# EAGLE library part NUCLEO-F446RE (library NUCLEO-F446RE)
STM32 Nucleo-64 development board with STM32F446RET6 MCU, supports Arduino and ST morpho connectivity
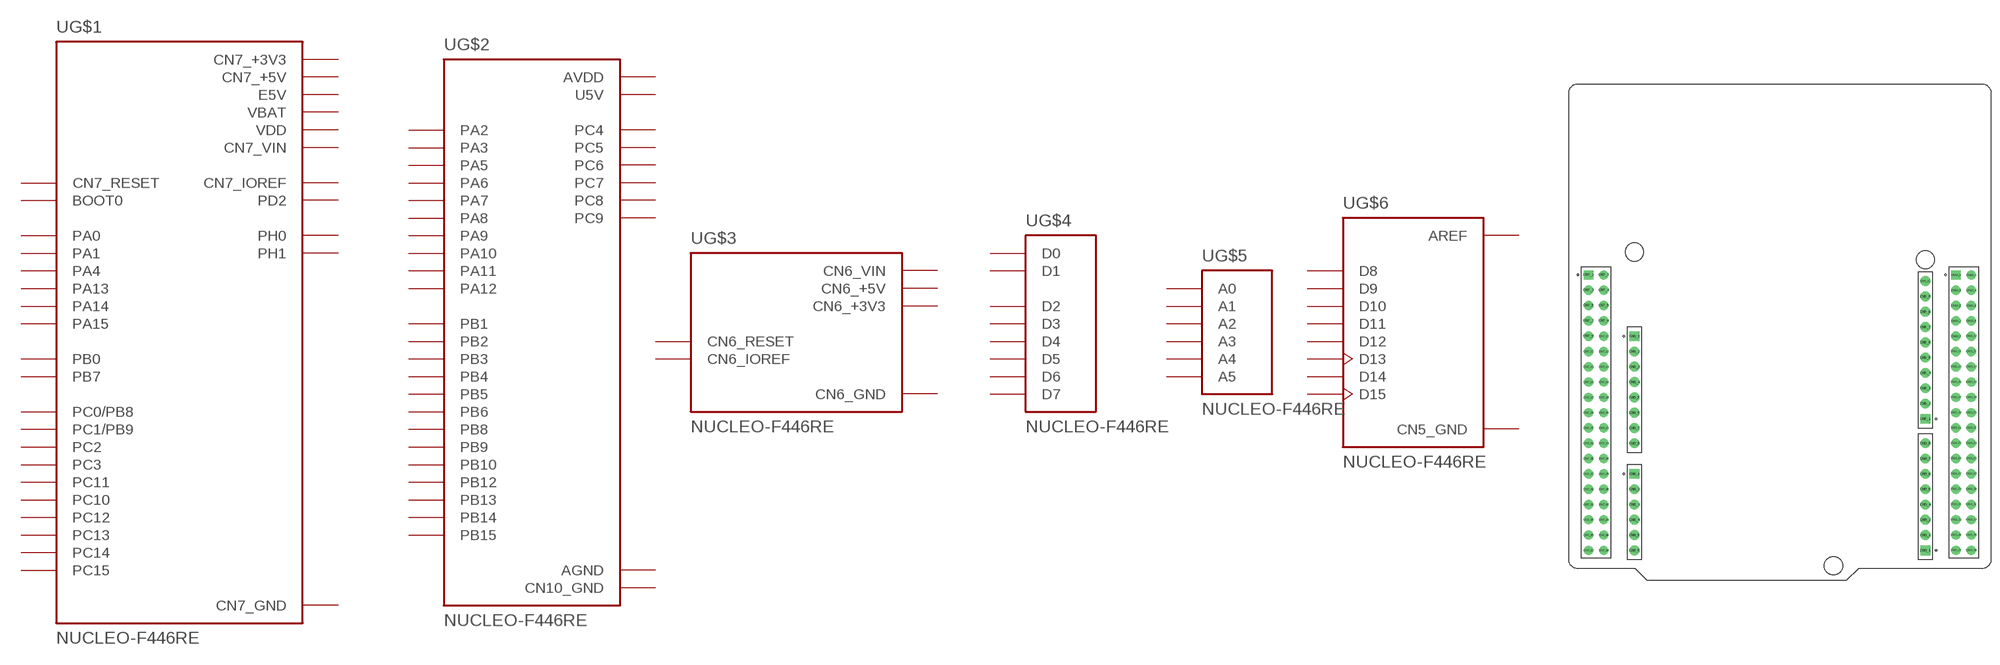
[diagram p0: symbol with the pads of MODULE_NUCLEO-F446RE; footprint MODULE_NUCLEO-F446RE]

Designator prefix U; gates G$1=NUCLEO-F446RE_IO-1 G$2=NUCLEO-F446RE_IO-2 G$3=NUCLEO-F446RE_POWER G$4=NUCLEO-F446RE_DIGITAL-2 G$5=NUCLEO-F446RE_ANALOG G$6=NUCLEO-F446RE_DIGITAL-1

## NUCLEO-F446RE (Availability: Unavailable; Description: STM32F446RE, mbed-Enabled Development Nucleo-64 STM32F4 ARM® Cortex®-M4 MCU 32-Bit Embedded Evaluation Board; MF: STMicroelectronics; MP: NUCLEO-F446RE; Package: None; Price: None)  [MODULE_NUCLEO-F446RE]
CN5_1  G$6:D8
CN5_2  G$6:D9
CN5_3  G$6:D10
CN5_4  G$6:D11
CN5_5  G$6:D12
CN5_6  G$6:D13
CN5_7  G$6:CN5_GND  pwr
CN5_8  G$6:AREF  pwr
CN5_9  G$6:D14
CN5_10  G$6:D15
CN6_2  G$3:CN6_IOREF
CN6_3  G$3:CN6_RESET
CN6_4  G$3:CN6_+3V3  pwr
CN6_5  G$3:CN6_+5V  pwr
CN6_6  G$3:CN6_GND  pwr
CN6_7  G$3:CN6_GND  pwr
CN6_8  G$3:CN6_VIN  pwr
CN7_1  G$1:PC10
CN7_2  G$1:PC11
CN7_3  G$1:PC12
CN7_4  G$1:PD2
CN7_5  G$1:VDD  pwr
CN7_6  G$1:E5V  pwr
CN7_7  G$1:BOOT0
CN7_8  G$1:CN7_GND  pwr
CN7_12  G$1:CN7_IOREF
CN7_13  G$1:PA13
CN7_14  G$1:CN7_RESET
CN7_15  G$1:PA14
CN7_16  G$1:CN7_+3V3  pwr
CN7_17  G$1:PA15
CN7_18  G$1:CN7_+5V  pwr
CN7_19  G$1:CN7_GND  pwr
CN7_20  G$1:CN7_GND  pwr
CN7_21  G$1:PB7
CN7_22  G$1:CN7_GND  pwr
CN7_23  G$1:PC13
CN7_24  G$1:CN7_VIN  pwr
CN7_25  G$1:PC14
CN7_27  G$1:PC15
CN7_28  G$1:PA0
CN7_29  G$1:PH0
CN7_30  G$1:PA1
CN7_31  G$1:PH1
CN7_32  G$1:PA4
CN7_33  G$1:VBAT  pwr
CN7_34  G$1:PB0
CN7_35  G$1:PC2
CN7_36  G$1:PC1/PB9
CN7_37  G$1:PC3
CN7_38  G$1:PC0/PB8
CN8_1  G$5:A0  in
CN8_2  G$5:A1  in
CN8_3  G$5:A2  in
CN8_4  G$5:A3  in
CN8_5  G$5:A4  in
CN8_6  G$5:A5  in
CN9_1  G$4:D0  in
CN9_2  G$4:D1  out
CN9_3  G$4:D2
CN9_4  G$4:D3
CN9_5  G$4:D4
CN9_6  G$4:D5
CN9_7  G$4:D6
CN9_8  G$4:D7
CN10_1  G$2:PC9
CN10_2  G$2:PC8
CN10_3  G$2:PB8
CN10_4  G$2:PC6
CN10_5  G$2:PB9
CN10_6  G$2:PC5
CN10_7  G$2:AVDD  pwr
CN10_8  G$2:U5V  pwr
CN10_9  G$2:CN10_GND  pwr
CN10_11  G$2:PA5
CN10_12  G$2:PA12
CN10_13  G$2:PA6
CN10_14  G$2:PA11
CN10_15  G$2:PA7
CN10_16  G$2:PB12
CN10_17  G$2:PB6
CN10_19  G$2:PC7
CN10_20  G$2:CN10_GND  pwr
CN10_21  G$2:PA9
CN10_22  G$2:PB2
CN10_23  G$2:PA8
CN10_24  G$2:PB1
CN10_25  G$2:PB10
CN10_26  G$2:PB15
CN10_27  G$2:PB4
CN10_28  G$2:PB14
CN10_29  G$2:PB5
CN10_30  G$2:PB13
CN10_31  G$2:PB3
CN10_32  G$2:AGND  pwr
CN10_33  G$2:PA10
CN10_34  G$2:PC4
CN10_35  G$2:PA2
CN10_37  G$2:PA3

## Footprint MODULE_NUCLEO-F446RE (pad centres in mm)
drill 1.07 square: CN5_1 24.13,-14.37; CN6_1 -24.13,-0.65; CN8_1 -24.13,-23.51; CN9_1 24.13,-36.21
drill 1.07: CN5_2 24.13,-11.83; CN5_3 24.13,-9.29; CN5_4 24.13,-6.75; CN5_5 24.13,-4.21; CN5_6 24.13,-1.67; CN5_7 24.13,0.87; CN5_8 24.13,3.41; CN5_9 24.13,5.95; CN5_10 24.13,8.49; CN6_2 -24.13,-3.19; CN6_3 -24.13,-5.73; CN6_4 -24.13,-8.27; CN6_5 -24.13,-10.81; CN6_6 -24.13,-13.35; CN6_7 -24.13,-15.89; CN6_8 -24.13,-18.43; CN8_2 -24.13,-26.05; CN8_3 -24.13,-28.59; CN8_4 -24.13,-31.13; CN8_5 -24.13,-33.67; CN8_6 -24.13,-36.21; CN9_2 24.13,-33.67; CN9_3 24.13,-31.13; CN9_4 24.13,-28.59; CN9_5 24.13,-26.05; CN9_6 24.13,-23.51; CN9_7 24.13,-20.97; CN9_8 24.13,-18.43
drill 1.02 square: CN7_1 -31.75,9.51; CN10_1 29.21,9.51
drill 1.02: CN7_2 -29.21,9.51; CN7_3 -31.75,6.97; CN7_4 -29.21,6.97; CN7_5 -31.75,4.43; CN7_6 -29.21,4.43; CN7_7 -31.75,1.89; CN7_8 -29.21,1.89; CN7_9 -31.75,-0.65; CN7_10 -29.21,-0.65; CN7_11 -31.75,-3.19; CN7_12 -29.21,-3.19; CN7_13 -31.75,-5.73; CN7_14 -29.21,-5.73; CN7_15 -31.75,-8.27; CN7_16 -29.21,-8.27; CN7_17 -31.75,-10.81; CN7_18 -29.21,-10.81; CN7_19 -31.75,-13.35; CN7_20 -29.21,-13.35; CN7_21 -31.75,-15.89; CN7_22 -29.21,-15.89; CN7_23 -31.75,-18.43; CN7_24 -29.21,-18.43; CN7_25 -31.75,-20.97; CN7_26 -29.21,-20.97; CN7_27 -31.75,-23.51; CN7_28 -29.21,-23.51; CN7_29 -31.75,-26.05; CN7_30 -29.21,-26.05; CN7_31 -31.75,-28.59; CN7_32 -29.21,-28.59; CN7_33 -31.75,-31.13; CN7_34 -29.21,-31.13; CN7_35 -31.75,-33.67; CN7_36 -29.21,-33.67; CN7_37 -31.75,-36.21; CN7_38 -29.21,-36.21; CN10_2 31.75,9.51; CN10_3 29.21,6.97; CN10_4 31.75,6.97; CN10_5 29.21,4.43; CN10_6 31.75,4.43; CN10_7 29.21,1.89; CN10_8 31.75,1.89; CN10_9 29.21,-0.65; CN10_10 31.75,-0.65; CN10_11 29.21,-3.19; CN10_12 31.75,-3.19; CN10_13 29.21,-5.73; CN10_14 31.75,-5.73; CN10_15 29.21,-8.27; CN10_16 31.75,-8.27; CN10_17 29.21,-10.81; CN10_18 31.75,-10.81; CN10_19 29.21,-13.35; CN10_20 31.75,-13.35; CN10_21 29.21,-15.89; CN10_22 31.75,-15.89; CN10_23 29.21,-18.43; CN10_24 31.75,-18.43; CN10_25 29.21,-20.97; CN10_26 31.75,-20.97; CN10_27 29.21,-23.51; CN10_28 31.75,-23.51; CN10_29 29.21,-26.05; CN10_30 31.75,-26.05; CN10_31 29.21,-28.59; CN10_32 31.75,-28.59; CN10_33 29.21,-31.13; CN10_34 31.75,-31.13; CN10_35 29.21,-33.67; CN10_36 31.75,-33.67; CN10_37 29.21,-36.21; CN10_38 31.75,-36.21
hole 3 at 8.89,-38.75
hole 3 at 24.13,12.05
hole 3 at -24.13,13.32